# EAGLE library part MAX520 (library max520)
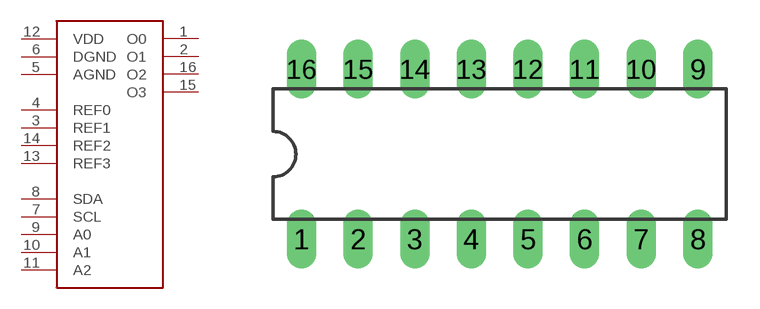
[diagram p0: symbol with the pads of DIL16; footprint DIL16]

Designator prefix -

## MAX520  [DIL16]
1  O0
2  O1
3  REF1
4  REF0
5  AGND
6  DGND
7  SCL
8  SDA
9  A0
10  A1
11  A2
12  VDD
13  REF3
14  REF2
15  O3
16  O2

## Footprint DIL16 (pad centres in mm)
Dual In Line Package
drill 0.813 long: 1 -8.89,-3.81; 2 -6.35,-3.81; 3 -3.81,-3.81; 4 -1.27,-3.81; 5 1.27,-3.81; 6 3.81,-3.81; 7 6.35,-3.81; 8 8.89,-3.81; 9 8.89,3.81; 10 6.35,3.81; 11 3.81,3.81; 12 1.27,3.81; 13 -1.27,3.81; 14 -3.81,3.81; 15 -6.35,3.81; 16 -8.89,3.81